# Altium schematic symbol library xem7310_carrier.SchLib: 12 symbols
Pins are listed as number, name and electrical type; pins without a type are passive.

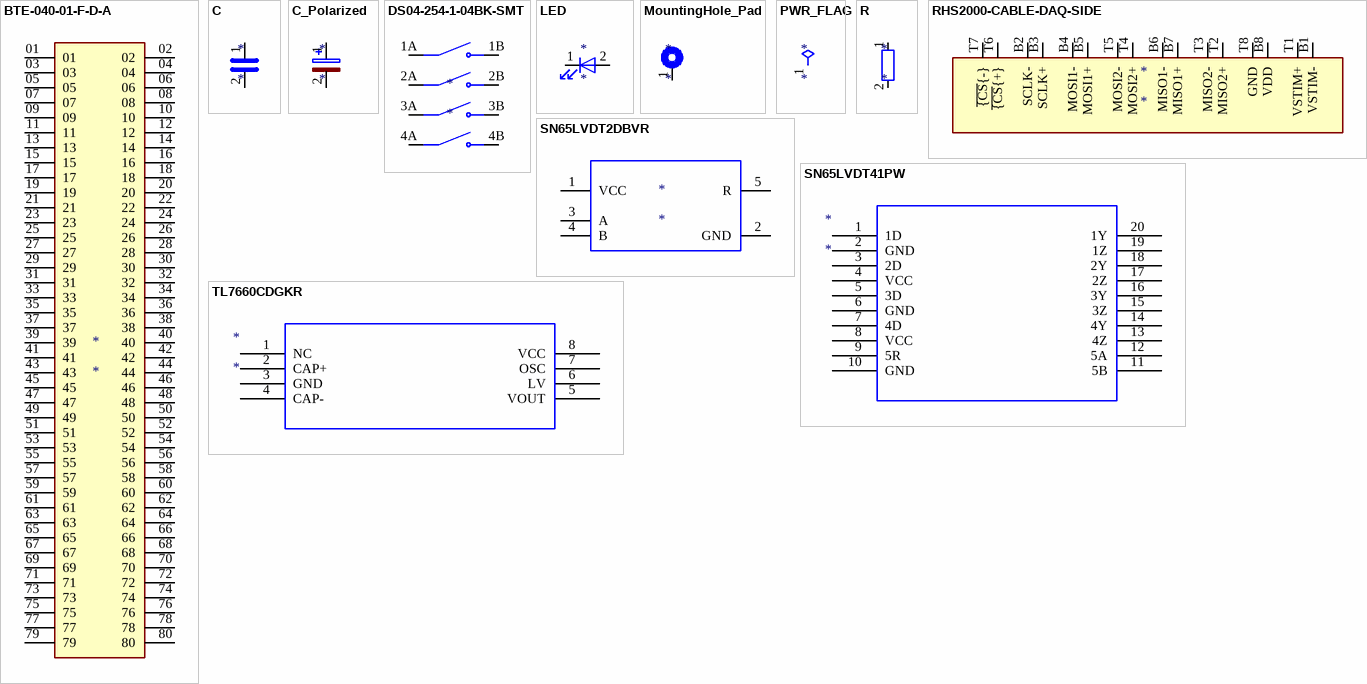
[diagram p0: symbols BTE-040-01-F-D-A to TL7660CDGKR]

## BTE-040-01-F-D-A
designator *
pins: 01, 02, 03, 04, 05, 06, 07, 08, 09, 10, 11, 12, 13, 14, 15, 16, 17, 18, 19, 20, 21, 22, 23, 24, 25, 26, 27, 28, 29, 30, 31, 32, 33, 34, 35, 36, 37, 38, 39, 40, 41, 42, 43, 44, 45, 46, 47, 48, 49, 50, 51, 52, 53, 54, 55, 56, 57, 58, 59, 60, 61, 62, 63, 64, 65, 66, 67, 68, 69, 70, 71, 72, 73, 74, 75, 76, 77, 78, 79, 80

## C
designator *
pins: 1, 2

## C_Polarized
designator *
pins: 1, 2

## DS04-254-1-04BK-SMT
designator *
pins: 1A, 1B, 2A, 2B, 3A, 3B, 4A, 4B

## LED
designator *
pins: 1 K, 2 A

## MountingHole_Pad
designator *
pins: 1

## PWR_FLAG
designator *  (graphical)
pins: 1 pwr

## R
designator *
pins: 1, 2

## RHS2000-CABLE-DAQ-SIDE
designator *
pins: B1 VSTIM-, B2 SCLK-, B3 SCLK+, B4 MOSI1-, B5 MOSI1+, B6 MISO1-, B7 MISO1+, B8 VDD, T1 VSTIM+, T2 MISO2+, T3 MISO2-, T4 MOSI2+, T5 MOSI2-, T6 ~{{CS}{+}, T7 ~{{CS}{-}, T8 GND

## SN65LVDT2DBVR
designator *
pins: 1 VCC, 2 GND, 3 A, 4 B, 5 R

## SN65LVDT41PW
designator *
pins: 1 1D, 2 GND, 3 2D, 4 VCC, 5 3D, 6 GND, 7 4D, 8 VCC, 9 5R, 10 GND, 11 5B, 12 5A, 13 4Z, 14 4Y, 15 3Z, 16 3Y, 17 2Z, 18 2Y, 19 1Z, 20 1Y

## TL7660CDGKR
designator *
pins: 1 NC, 2 CAP+, 3 GND, 4 CAP-, 5 VOUT, 6 LV, 7 OSC, 8 VCC